# Altium schematic symbol library 15EDG.SchLib: 46 symbols (part 1 of 2)
Pins are listed as number, name and electrical type; pins without a type are passive.

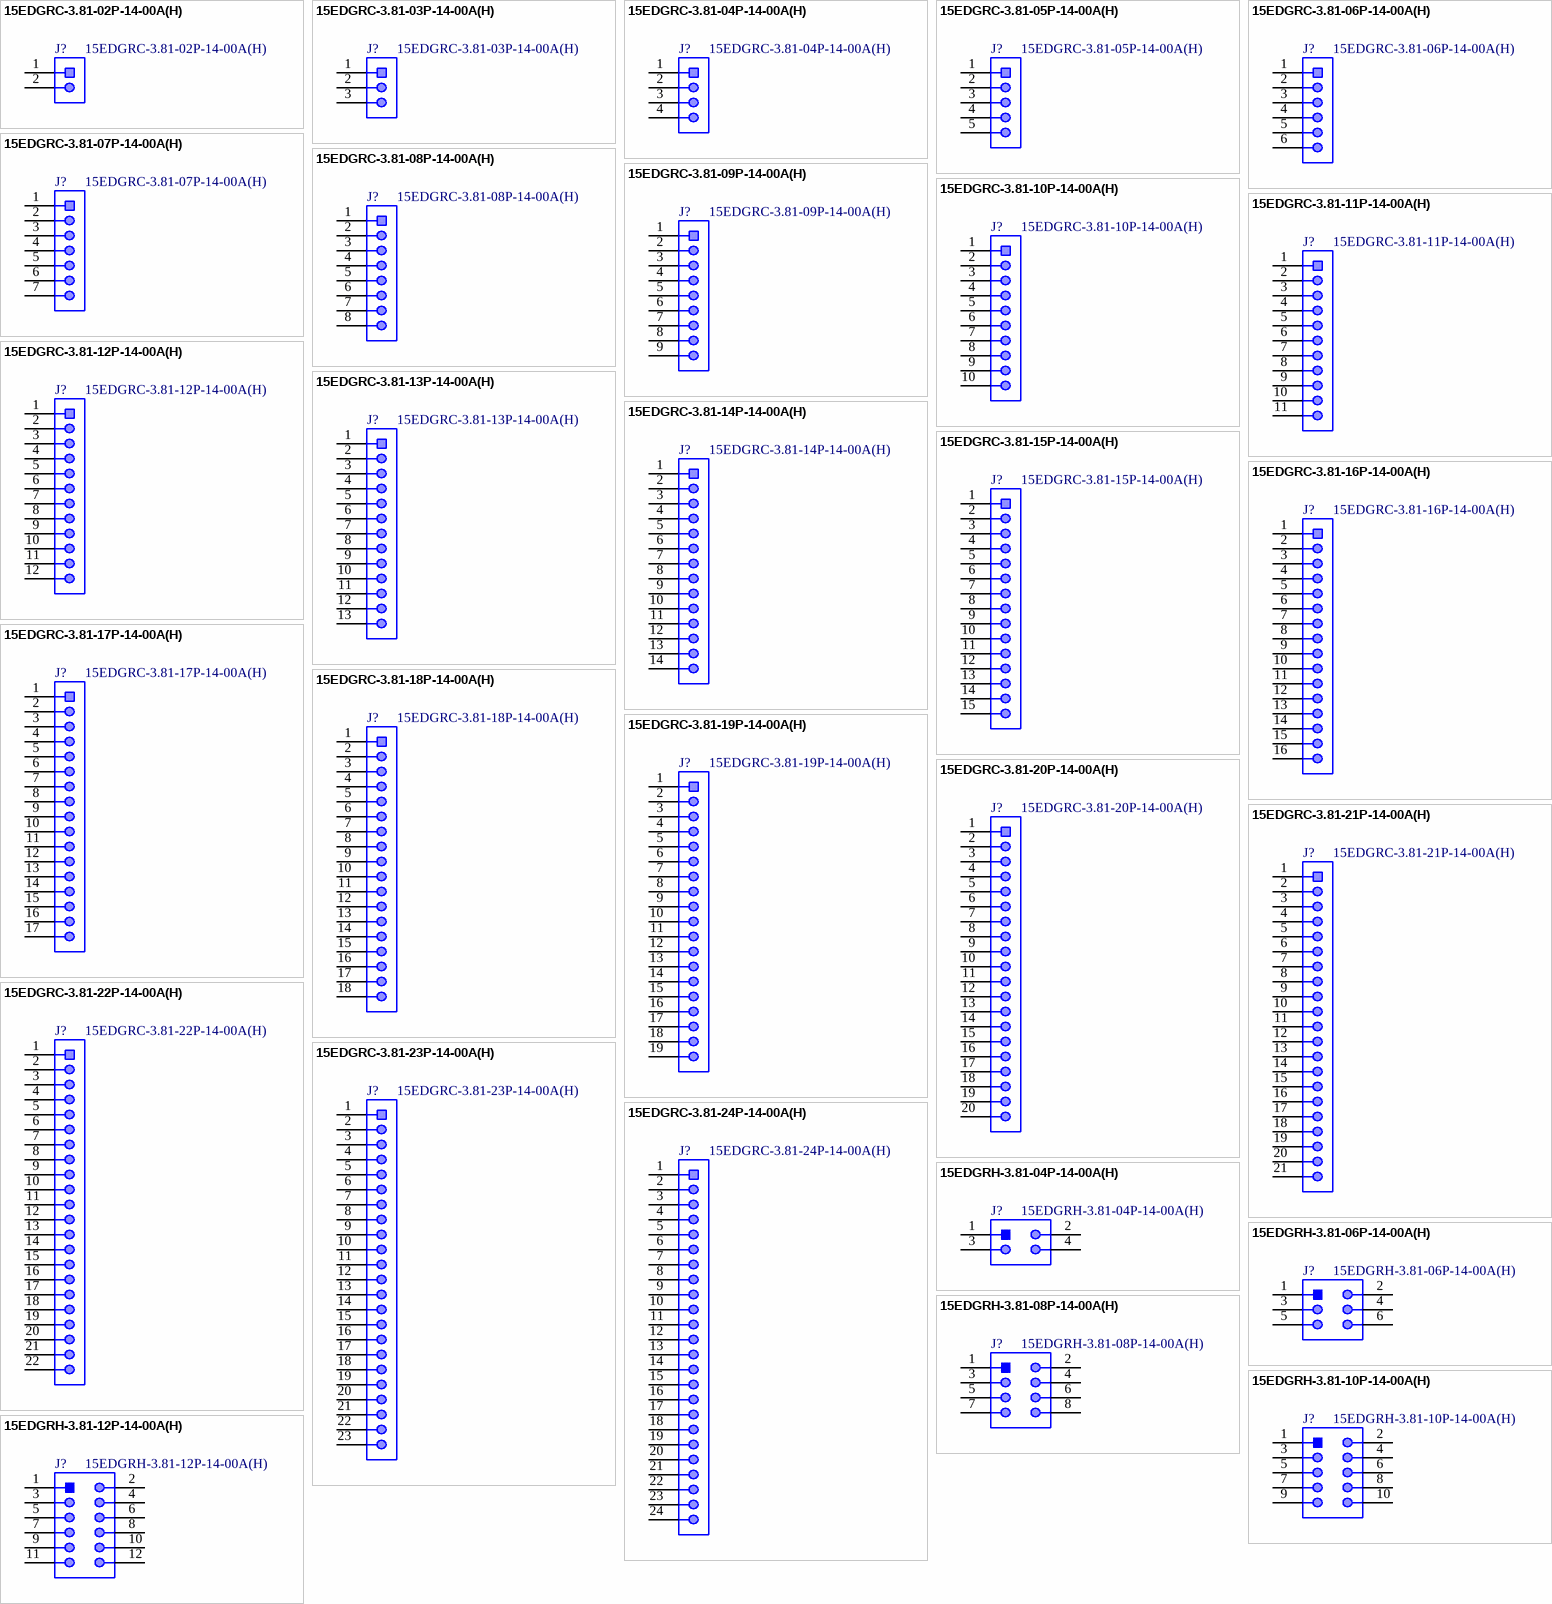
[diagram p0: symbols 15EDGRC-3.81-02P-14-00A(H) to 15EDGRH-3.81-12P-14-00A(H)]

## 15EDGRC-3.81-02P-14-00A(H)
designator J?
Pluggable Terminal Block, Horizontal, 1 x 2 Position, Pitch 3.81 mm, -40 to 105 degC, RoHS; Manufacturer: Degson Electronics; Poles: 2; Pitch: 3.81mm; Rated Current: 7A; Rated Voltage: 250V; No. of Rows: 1; Packing Unit: 200; Pin Arrangement: Single row in a straight line; Type of Installation: PCB welding; Pluggable or not: Yes; Process: Wave soldering/manual soldering; ComponentLink1Description: Manufacturer; ComponentLink1URL: http://www.degson.com/; ComponentLink2URL: https://www.degson.com.cn/index.php?a=downloadFile&id=833556&name=%27ZmlsZTQ=%27&lang=cn; ComponentLink2Description: Datasheet; Mounting Technology: Through Hole; Part Number: 15EDGRC-3.81-02P-14-00A(H); Operating Temperature: -40 to +105degC; Publisher: Bolgen Studio; Package Description: Terminal Block, Pitch 3.81 mm, 1 x 2 Position, Height 7.24 mm; Package Reference: 15EDGRC-3.81-02P-14-00A; Color: Green; Orientation: Horizontal; Datasheet Version: Rev. T1, 03/2020
footprint DGSN-15EDGRC-3.81-02P-14-00A_V (Terminal Block, 2-Pin, Body 8.41x9.2mm, Pitch 3.81mm)
pins: 1, 2

## 15EDGRC-3.81-03P-14-00A(H)
designator J?
Pluggable Terminal Block, Horizontal, 1 x 3 Position, Pitch 3.81 mm, -40 to 105 degC, RoHS; Manufacturer: Degson Electronics; Poles: 3; Pitch: 3.81mm; Rated Current: 7A; Rated Voltage: 250V; No. of Rows: 1; Packing Unit: 200; Pin Arrangement: Single row in a straight line; Type of Installation: PCB welding; Pluggable or not: Yes; Process: Wave soldering/manual soldering; ComponentLink1Description: Manufacturer; ComponentLink1URL: http://www.degson.com/; ComponentLink2URL: https://www.degson.com.cn/index.php?a=downloadFile&id=833556&name=%27ZmlsZTQ=%27&lang=cn; ComponentLink2Description: Datasheet; Mounting Technology: Through Hole; Part Number: 15EDGRC-3.81-03P-14-00A(H); Operating Temperature: -40 to +105degC; Publisher: Bolgen Studio; Package Description: Terminal Block, Pitch 3.81 mm, 1 x 3 Position, Height 7.24 mm; Package Reference: 15EDGRC-3.81-03P-14-00A; Color: Green; Orientation: Horizontal; Datasheet Version: Rev. T1, 03/2020
footprint DGSN-15EDGRC-3.81-03P-14-00A_V (Terminal Block, 3-Pin, Body 12.22x9.2mm, Pitch 3.81mm)
pins: 1, 2, 3

## 15EDGRC-3.81-04P-14-00A(H)
designator J?
Pluggable Terminal Block, Horizontal, 1 x 4 Position, Pitch 3.81 mm, -40 to 105 degC, RoHS; Manufacturer: Degson Electronics; Poles: 4; Pitch: 3.81mm; Rated Current: 7A; Rated Voltage: 250V; No. of Rows: 1; Packing Unit: 200; Pin Arrangement: Single row in a straight line; Type of Installation: PCB welding; Pluggable or not: Yes; Process: Wave soldering/manual soldering; ComponentLink1Description: Manufacturer; ComponentLink1URL: http://www.degson.com/; ComponentLink2URL: https://www.degson.com.cn/index.php?a=downloadFile&id=833556&name=%27ZmlsZTQ=%27&lang=cn; ComponentLink2Description: Datasheet; Mounting Technology: Through Hole; Part Number: 15EDGRC-3.81-04P-14-00A(H); Operating Temperature: -40 to +105degC; Publisher: Bolgen Studio; Package Description: Terminal Block, Pitch 3.81 mm, 1 x 4 Position, Height 7.24 mm; Package Reference: 15EDGRC-3.81-04P-14-00A; Color: Green; Orientation: Horizontal; Datasheet Version: Rev. T1, 03/2020
footprint DGSN-15EDGRC-3.81-04P-14-00A_V (Terminal Block, 4-Pin, Body 16.03x9.2mm, Pitch 3.81mm)
pins: 1, 2, 3, 4

## 15EDGRC-3.81-05P-14-00A(H)
designator J?
Pluggable Terminal Block, Horizontal, 1 x 5 Position, Pitch 3.81 mm, -40 to 105 degC, RoHS; Manufacturer: Degson Electronics; Poles: 5; Pitch: 3.81mm; Rated Current: 7A; Rated Voltage: 250V; No. of Rows: 1; Packing Unit: 200; Pin Arrangement: Single row in a straight line; Type of Installation: PCB welding; Pluggable or not: Yes; Process: Wave soldering/manual soldering; ComponentLink1Description: Manufacturer; ComponentLink1URL: http://www.degson.com/; ComponentLink2URL: https://www.degson.com.cn/index.php?a=downloadFile&id=833556&name=%27ZmlsZTQ=%27&lang=cn; ComponentLink2Description: Datasheet; Mounting Technology: Through Hole; Part Number: 15EDGRC-3.81-05P-14-00A(H); Operating Temperature: -40 to +105degC; Publisher: Bolgen Studio; Package Description: Terminal Block, Pitch 3.81 mm, 1 x 5 Position, Height 7.24 mm; Package Reference: 15EDGRC-3.81-05P-14-00A; Color: Green; Orientation: Horizontal; Datasheet Version: Rev. T1, 03/2020
footprint DGSN-15EDGRC-3.81-05P-14-00A_V (Terminal Block, 5-Pin, Body 19.84x9.2mm, Pitch 3.81mm)
pins: 1, 2, 3, 4, 5

## 15EDGRC-3.81-06P-14-00A(H)
designator J?
Pluggable Terminal Block, Horizontal, 1 x 6 Position, Pitch 3.81 mm, -40 to 105 degC, RoHS; Manufacturer: Degson Electronics; Poles: 6; Pitch: 3.81mm; Rated Current: 7A; Rated Voltage: 250V; No. of Rows: 1; Packing Unit: 200; Pin Arrangement: Single row in a straight line; Type of Installation: PCB welding; Pluggable or not: Yes; Process: Wave soldering/manual soldering; ComponentLink1Description: Manufacturer; ComponentLink1URL: http://www.degson.com/; ComponentLink2URL: https://www.degson.com.cn/index.php?a=downloadFile&id=833556&name=%27ZmlsZTQ=%27&lang=cn; ComponentLink2Description: Datasheet; Mounting Technology: Through Hole; Part Number: 15EDGRC-3.81-06P-14-00A(H); Operating Temperature: -40 to +105degC; Publisher: Bolgen Studio; Package Description: Terminal Block, Pitch 3.81 mm, 1 x 6 Position, Height 7.24 mm; Package Reference: 15EDGRC-3.81-06P-14-00A; Color: Green; Orientation: Horizontal; Datasheet Version: Rev. T1, 03/2020
footprint DGSN-15EDGRC-3.81-06P-14-00A_V (Terminal Block, 6-Pin, Body 23.65x9.2mm, Pitch 3.81mm)
pins: 1, 2, 3, 4, 5, 6

## 15EDGRC-3.81-07P-14-00A(H)
designator J?
Pluggable Terminal Block, Horizontal, 1 x 7 Position, Pitch 3.81 mm, -40 to 105 degC, RoHS; Manufacturer: Degson Electronics; Poles: 7; Pitch: 3.81mm; Rated Current: 7A; Rated Voltage: 250V; No. of Rows: 1; Packing Unit: 200; Pin Arrangement: Single row in a straight line; Type of Installation: PCB welding; Pluggable or not: Yes; Process: Wave soldering/manual soldering; ComponentLink1Description: Manufacturer; ComponentLink1URL: http://www.degson.com/; ComponentLink2URL: https://www.degson.com.cn/index.php?a=downloadFile&id=833556&name=%27ZmlsZTQ=%27&lang=cn; ComponentLink2Description: Datasheet; Mounting Technology: Through Hole; Part Number: 15EDGRC-3.81-07P-14-00A(H); Operating Temperature: -40 to +105degC; Publisher: Bolgen Studio; Package Description: Terminal Block, Pitch 3.81 mm, 1 x 7 Position, Height 7.24 mm; Package Reference: 15EDGRC-3.81-07P-14-00A; Color: Green; Orientation: Horizontal; Datasheet Version: Rev. T1, 03/2020
footprint DGSN-15EDGRC-3.81-07P-14-00A_V (Terminal Block, 7-Pin, Body 27.46x9.2mm, Pitch 3.81mm)
pins: 1, 2, 3, 4, 5, 6, 7

## 15EDGRC-3.81-08P-14-00A(H)
designator J?
Pluggable Terminal Block, Horizontal, 1 x 8 Position, Pitch 3.81 mm, -40 to 105 degC, RoHS; Manufacturer: Degson Electronics; Poles: 8; Pitch: 3.81mm; Rated Current: 7A; Rated Voltage: 250V; No. of Rows: 1; Packing Unit: 200; Pin Arrangement: Single row in a straight line; Type of Installation: PCB welding; Pluggable or not: Yes; Process: Wave soldering/manual soldering; ComponentLink1Description: Manufacturer; ComponentLink1URL: http://www.degson.com/; ComponentLink2URL: https://www.degson.com.cn/index.php?a=downloadFile&id=833556&name=%27ZmlsZTQ=%27&lang=cn; ComponentLink2Description: Datasheet; Mounting Technology: Through Hole; Part Number: 15EDGRC-3.81-08P-14-00A(H); Operating Temperature: -40 to +105degC; Publisher: Bolgen Studio; Package Description: Terminal Block, Pitch 3.81 mm, 1 x 8 Position, Height 7.24 mm; Package Reference: 15EDGRC-3.81-08P-14-00A; Color: Green; Orientation: Horizontal; Datasheet Version: Rev. T1, 03/2020
footprint DGSN-15EDGRC-3.81-08P-14-00A_V (Terminal Block, 8-Pin, Body 31.27x9.2mm, Pitch 3.81mm)
pins: 1, 2, 3, 4, 5, 6, 7, 8

## 15EDGRC-3.81-09P-14-00A(H)
designator J?
Pluggable Terminal Block, Horizontal, 1 x 9 Position, Pitch 3.81 mm, -40 to 105 degC, RoHS; Manufacturer: Degson Electronics; Poles: 9; Pitch: 3.81mm; Rated Current: 7A; Rated Voltage: 250V; No. of Rows: 1; Packing Unit: 200; Pin Arrangement: Single row in a straight line; Type of Installation: PCB welding; Pluggable or not: Yes; Process: Wave soldering/manual soldering; ComponentLink1Description: Manufacturer; ComponentLink1URL: http://www.degson.com/; ComponentLink2URL: https://www.degson.com.cn/index.php?a=downloadFile&id=833556&name=%27ZmlsZTQ=%27&lang=cn; ComponentLink2Description: Datasheet; Mounting Technology: Through Hole; Part Number: 15EDGRC-3.81-09P-14-00A(H); Operating Temperature: -40 to +105degC; Publisher: Bolgen Studio; Package Description: Terminal Block, Pitch 3.81 mm, 1 x 9 Position, Height 7.24 mm; Package Reference: 15EDGRC-3.81-09P-14-00A; Color: Green; Orientation: Horizontal; Datasheet Version: Rev. T1, 03/2020
footprint DGSN-15EDGRC-3.81-09P-14-00A_V (Terminal Block, 9-Pin, Body 35.08x9.2mm, Pitch 3.81mm)
pins: 1, 2, 3, 4, 5, 6, 7, 8, 9

## 15EDGRC-3.81-10P-14-00A(H)
designator J?
Pluggable Terminal Block, Horizontal, 1 x 10 Position, Pitch 3.81 mm, -40 to 105 degC, RoHS; Manufacturer: Degson Electronics; Poles: 10; Pitch: 3.81mm; Rated Current: 7A; Rated Voltage: 250V; No. of Rows: 1; Packing Unit: 200; Pin Arrangement: Single row in a straight line; Type of Installation: PCB welding; Pluggable or not: Yes; Process: Wave soldering/manual soldering; ComponentLink1Description: Manufacturer; ComponentLink1URL: http://www.degson.com/; ComponentLink2URL: https://www.degson.com.cn/index.php?a=downloadFile&id=833556&name=%27ZmlsZTQ=%27&lang=cn; ComponentLink2Description: Datasheet; Mounting Technology: Through Hole; Part Number: 15EDGRC-3.81-10P-14-00A(H); Operating Temperature: -40 to +105degC; Publisher: Bolgen Studio; Package Description: Terminal Block, Pitch 3.81 mm, 1 x 10 Position, Height 7.24 mm; Package Reference: 15EDGRC-3.81-10P-14-00A; Color: Green; Orientation: Horizontal; Datasheet Version: Rev. T1, 03/2020
footprint DGSN-15EDGRC-3.81-10P-14-00A_V (Terminal Block, 10-Pin, Body 38.89x9.2mm, Pitch 3.81mm)
pins: 1, 2, 3, 4, 5, 6, 7, 8, 9, 10

## 15EDGRC-3.81-11P-14-00A(H)
designator J?
Pluggable Terminal Block, Horizontal, 1 x 11 Position, Pitch 3.81 mm, -40 to 105 degC, RoHS; Manufacturer: Degson Electronics; Poles: 11; Pitch: 3.81mm; Rated Current: 7A; Rated Voltage: 250V; No. of Rows: 1; Packing Unit: 200; Pin Arrangement: Single row in a straight line; Type of Installation: PCB welding; Pluggable or not: Yes; Process: Wave soldering/manual soldering; ComponentLink1Description: Manufacturer; ComponentLink1URL: http://www.degson.com/; ComponentLink2URL: https://www.degson.com.cn/index.php?a=downloadFile&id=833556&name=%27ZmlsZTQ=%27&lang=cn; ComponentLink2Description: Datasheet; Mounting Technology: Through Hole; Part Number: 15EDGRC-3.81-11P-14-00A(H); Operating Temperature: -40 to +105degC; Publisher: Bolgen Studio; Package Description: Terminal Block, Pitch 3.81 mm, 1 x 11 Position, Height 7.24 mm; Package Reference: 15EDGRC-3.81-11P-14-00A; Color: Green; Orientation: Horizontal; Datasheet Version: Rev. T1, 03/2020
footprint DGSN-15EDGRC-3.81-11P-14-00A_V (Terminal Block, 11-Pin, Body 42.70x9.2mm, Pitch 3.81mm)
pins: 1, 2, 3, 4, 5, 6, 7, 8, 9, 10, 11

## 15EDGRC-3.81-12P-14-00A(H)
designator J?
Pluggable Terminal Block, Horizontal, 1 x 12 Position, Pitch 3.81 mm, -40 to 105 degC, RoHS; Manufacturer: Degson Electronics; Poles: 12; Pitch: 3.81mm; Rated Current: 7A; Rated Voltage: 250V; No. of Rows: 1; Packing Unit: 200; Pin Arrangement: Single row in a straight line; Type of Installation: PCB welding; Pluggable or not: Yes; Process: Wave soldering/manual soldering; ComponentLink1Description: Manufacturer; ComponentLink1URL: http://www.degson.com/; ComponentLink2URL: https://www.degson.com.cn/index.php?a=downloadFile&id=833556&name=%27ZmlsZTQ=%27&lang=cn; ComponentLink2Description: Datasheet; Mounting Technology: Through Hole; Part Number: 15EDGRC-3.81-12P-14-00A(H); Operating Temperature: -40 to +105degC; Publisher: Bolgen Studio; Package Description: Terminal Block, Pitch 3.81 mm, 1 x 12 Position, Height 7.24 mm; Package Reference: 15EDGRC-3.81-12P-14-00A; Color: Green; Orientation: Horizontal; Datasheet Version: Rev. T1, 03/2020
footprint DGSN-15EDGRC-3.81-12P-14-00A_V (Terminal Block, 12-Pin, Body 46.51x9.2mm, Pitch 3.81mm)
pins: 1, 2, 3, 4, 5, 6, 7, 8, 9, 10, 11, 12

## 15EDGRC-3.81-13P-14-00A(H)
designator J?
Pluggable Terminal Block, Horizontal, 1 x 13 Position, Pitch 3.81 mm, -40 to 105 degC, RoHS; Manufacturer: Degson Electronics; Poles: 13; Pitch: 3.81mm; Rated Current: 7A; Rated Voltage: 250V; No. of Rows: 1; Packing Unit: 200; Pin Arrangement: Single row in a straight line; Type of Installation: PCB welding; Pluggable or not: Yes; Process: Wave soldering/manual soldering; ComponentLink1Description: Manufacturer; ComponentLink1URL: http://www.degson.com/; ComponentLink2URL: https://www.degson.com.cn/index.php?a=downloadFile&id=833556&name=%27ZmlsZTQ=%27&lang=cn; ComponentLink2Description: Datasheet; Mounting Technology: Through Hole; Part Number: 15EDGRC-3.81-13P-14-00A(H); Operating Temperature: -40 to +105degC; Publisher: Bolgen Studio; Package Description: Terminal Block, Pitch 3.81 mm, 1 x 13 Position, Height 7.24 mm; Package Reference: 15EDGRC-3.81-13P-14-00A; Color: Green; Orientation: Horizontal; Datasheet Version: Rev. T1, 03/2020
footprint DGSN-15EDGRC-3.81-13P-14-00A_V (Terminal Block, 13-Pin, Body 50.32x9.2mm, Pitch 3.81mm)
pins: 1, 2, 3, 4, 5, 6, 7, 8, 9, 10, 11, 12, 13

## 15EDGRC-3.81-14P-14-00A(H)
designator J?
Pluggable Terminal Block, Horizontal, 1 x 14 Position, Pitch 3.81 mm, -40 to 105 degC, RoHS; Manufacturer: Degson Electronics; Poles: 14; Pitch: 3.81mm; Rated Current: 7A; Rated Voltage: 250V; No. of Rows: 1; Packing Unit: 200; Pin Arrangement: Single row in a straight line; Type of Installation: PCB welding; Pluggable or not: Yes; Process: Wave soldering/manual soldering; ComponentLink1Description: Manufacturer; ComponentLink1URL: http://www.degson.com/; ComponentLink2URL: https://www.degson.com.cn/index.php?a=downloadFile&id=833556&name=%27ZmlsZTQ=%27&lang=cn; ComponentLink2Description: Datasheet; Mounting Technology: Through Hole; Part Number: 15EDGRC-3.81-14P-14-00A(H); Operating Temperature: -40 to +105degC; Publisher: Bolgen Studio; Package Description: Terminal Block, Pitch 3.81 mm, 1 x 14 Position, Height 7.24 mm; Package Reference: 15EDGRC-3.81-14P-14-00A; Color: Green; Orientation: Horizontal; Datasheet Version: Rev. T1, 03/2020
footprint DGSN-15EDGRC-3.81-14P-14-00A_V (Terminal Block, 14-Pin, Body 54.13x9.2mm, Pitch 3.81mm)
pins: 1, 2, 3, 4, 5, 6, 7, 8, 9, 10, 11, 12, 13, 14

## 15EDGRC-3.81-15P-14-00A(H)
designator J?
Pluggable Terminal Block, Horizontal, 1 x 15 Position, Pitch 3.81 mm, -40 to 105 degC, RoHS; Manufacturer: Degson Electronics; Poles: 15; Pitch: 3.81mm; Rated Current: 7A; Rated Voltage: 250V; No. of Rows: 1; Packing Unit: 200; Pin Arrangement: Single row in a straight line; Type of Installation: PCB welding; Pluggable or not: Yes; Process: Wave soldering/manual soldering; ComponentLink1Description: Manufacturer; ComponentLink1URL: http://www.degson.com/; ComponentLink2URL: https://www.degson.com.cn/index.php?a=downloadFile&id=833556&name=%27ZmlsZTQ=%27&lang=cn; ComponentLink2Description: Datasheet; Mounting Technology: Through Hole; Part Number: 15EDGRC-3.81-15P-14-00A(H); Operating Temperature: -40 to +105degC; Publisher: Bolgen Studio; Package Description: Terminal Block, Pitch 3.81 mm, 1 x 15 Position, Height 7.24 mm; Package Reference: 15EDGRC-3.81-15P-14-00A; Color: Green; Orientation: Horizontal; Datasheet Version: Rev. T1, 03/2020
footprint DGSN-15EDGRC-3.81-15P-14-00A_V (Terminal Block, 15-Pin, Body 57.94x9.2mm, Pitch 3.81mm)
pins: 1, 2, 3, 4, 5, 6, 7, 8, 9, 10, 11, 12, 13, 14, 15

## 15EDGRC-3.81-16P-14-00A(H)
designator J?
Pluggable Terminal Block, Horizontal, 1 x 16 Position, Pitch 3.81 mm, -40 to 105 degC, RoHS; Manufacturer: Degson Electronics; Poles: 16; Pitch: 3.81mm; Rated Current: 7A; Rated Voltage: 250V; No. of Rows: 1; Packing Unit: 200; Pin Arrangement: Single row in a straight line; Type of Installation: PCB welding; Pluggable or not: Yes; Process: Wave soldering/manual soldering; ComponentLink1Description: Manufacturer; ComponentLink1URL: http://www.degson.com/; ComponentLink2URL: https://www.degson.com.cn/index.php?a=downloadFile&id=833556&name=%27ZmlsZTQ=%27&lang=cn; ComponentLink2Description: Datasheet; Mounting Technology: Through Hole; Part Number: 15EDGRC-3.81-16P-14-00A(H); Operating Temperature: -40 to +105degC; Publisher: Bolgen Studio; Package Description: Terminal Block, Pitch 3.81 mm, 1 x 16 Position, Height 7.24 mm; Package Reference: 15EDGRC-3.81-16P-14-00A; Color: Green; Orientation: Horizontal; Datasheet Version: Rev. T1, 03/2020
footprint DGSN-15EDGRC-3.81-16P-14-00A_V (Terminal Block, 16-Pin, Body 61.75x9.2mm, Pitch 3.81mm)
pins: 1, 2, 3, 4, 5, 6, 7, 8, 9, 10, 11, 12, 13, 14, 15, 16

## 15EDGRC-3.81-17P-14-00A(H)
designator J?
Pluggable Terminal Block, Horizontal, 1 x 17 Position, Pitch 3.81 mm, -40 to 105 degC, RoHS; Manufacturer: Degson Electronics; Poles: 17; Pitch: 3.81mm; Rated Current: 7A; Rated Voltage: 250V; No. of Rows: 1; Packing Unit: 200; Pin Arrangement: Single row in a straight line; Type of Installation: PCB welding; Pluggable or not: Yes; Process: Wave soldering/manual soldering; ComponentLink1Description: Manufacturer; ComponentLink1URL: http://www.degson.com/; ComponentLink2URL: https://www.degson.com.cn/index.php?a=downloadFile&id=833556&name=%27ZmlsZTQ=%27&lang=cn; ComponentLink2Description: Datasheet; Mounting Technology: Through Hole; Part Number: 15EDGRC-3.81-17P-14-00A(H); Operating Temperature: -40 to +105degC; Publisher: Bolgen Studio; Package Description: Terminal Block, Pitch 3.81 mm, 1 x 17 Position, Height 7.24 mm; Package Reference: 15EDGRC-3.81-17P-14-00A; Color: Green; Orientation: Horizontal; Datasheet Version: Rev. T1, 03/2020
footprint DGSN-15EDGRC-3.81-17P-14-00A_V (Terminal Block, 17-Pin, Body 65.56x9.2mm, Pitch 3.81mm)
pins: 1, 2, 3, 4, 5, 6, 7, 8, 9, 10, 11, 12, 13, 14, 15, 16, 17

## 15EDGRC-3.81-18P-14-00A(H)
designator J?
Pluggable Terminal Block, Horizontal, 1 x 18 Position, Pitch 3.81 mm, -40 to 105 degC, RoHS; Manufacturer: Degson Electronics; Poles: 18; Pitch: 3.81mm; Rated Current: 7A; Rated Voltage: 250V; No. of Rows: 1; Packing Unit: 200; Pin Arrangement: Single row in a straight line; Type of Installation: PCB welding; Pluggable or not: Yes; Process: Wave soldering/manual soldering; ComponentLink1Description: Manufacturer; ComponentLink1URL: http://www.degson.com/; ComponentLink2URL: https://www.degson.com.cn/index.php?a=downloadFile&id=833556&name=%27ZmlsZTQ=%27&lang=cn; ComponentLink2Description: Datasheet; Mounting Technology: Through Hole; Part Number: 15EDGRC-3.81-18P-14-00A(H); Operating Temperature: -40 to +105degC; Publisher: Bolgen Studio; Package Description: Terminal Block, Pitch 3.81 mm, 1 x 18 Position, Height 7.24 mm; Package Reference: 15EDGRC-3.81-18P-14-00A; Color: Green; Orientation: Horizontal; Datasheet Version: Rev. T1, 03/2020
footprint DGSN-15EDGRC-3.81-18P-14-00A_V (Terminal Block, 18-Pin, Body 69.37x9.2mm, Pitch 3.81mm)
pins: 1, 2, 3, 4, 5, 6, 7, 8, 9, 10, 11, 12, 13, 14, 15, 16, 17, 18

## 15EDGRC-3.81-19P-14-00A(H)
designator J?
Pluggable Terminal Block, Horizontal, 1 x 19 Position, Pitch 3.81 mm, -40 to 105 degC, RoHS; Manufacturer: Degson Electronics; Poles: 19; Pitch: 3.81mm; Rated Current: 7A; Rated Voltage: 250V; No. of Rows: 1; Packing Unit: 200; Pin Arrangement: Single row in a straight line; Type of Installation: PCB welding; Pluggable or not: Yes; Process: Wave soldering/manual soldering; ComponentLink1Description: Manufacturer; ComponentLink1URL: http://www.degson.com/; ComponentLink2URL: https://www.degson.com.cn/index.php?a=downloadFile&id=833556&name=%27ZmlsZTQ=%27&lang=cn; ComponentLink2Description: Datasheet; Mounting Technology: Through Hole; Part Number: 15EDGRC-3.81-19P-14-00A(H); Operating Temperature: -40 to +105degC; Publisher: Bolgen Studio; Package Description: Terminal Block, Pitch 3.81 mm, 1 x 19 Position, Height 7.24 mm; Package Reference: 15EDGRC-3.81-19P-14-00A; Color: Green; Orientation: Horizontal; Datasheet Version: Rev. T1, 03/2020
footprint DGSN-15EDGRC-3.81-19P-14-00A_V (Terminal Block, 19-Pin, Body 73.18x9.2mm, Pitch 3.81mm)
pins: 1, 2, 3, 4, 5, 6, 7, 8, 9, 10, 11, 12, 13, 14, 15, 16, 17, 18, 19

## 15EDGRC-3.81-20P-14-00A(H)
designator J?
Pluggable Terminal Block, Horizontal, 1 x 20 Position, Pitch 3.81 mm, -40 to 105 degC, RoHS; Manufacturer: Degson Electronics; Poles: 20; Pitch: 3.81mm; Rated Current: 7A; Rated Voltage: 250V; No. of Rows: 1; Packing Unit: 200; Pin Arrangement: Single row in a straight line; Type of Installation: PCB welding; Pluggable or not: Yes; Process: Wave soldering/manual soldering; ComponentLink1Description: Manufacturer; ComponentLink1URL: http://www.degson.com/; ComponentLink2URL: https://www.degson.com.cn/index.php?a=downloadFile&id=833556&name=%27ZmlsZTQ=%27&lang=cn; ComponentLink2Description: Datasheet; Mounting Technology: Through Hole; Part Number: 15EDGRC-3.81-20P-14-00A(H); Operating Temperature: -40 to +105degC; Publisher: Bolgen Studio; Package Description: Terminal Block, Pitch 3.81 mm, 1 x 20 Position, Height 7.24 mm; Package Reference: 15EDGRC-3.81-20P-14-00A; Color: Green; Orientation: Horizontal; Datasheet Version: Rev. T1, 03/2020
footprint DGSN-15EDGRC-3.81-20P-14-00A_V (Terminal Block, 20-Pin, Body 76.99x9.2mm, Pitch 3.81mm)
pins: 1, 2, 3, 4, 5, 6, 7, 8, 9, 10, 11, 12, 13, 14, 15, 16, 17, 18, 19, 20

## 15EDGRC-3.81-21P-14-00A(H)
designator J?
Pluggable Terminal Block, Horizontal, 1 x 21 Position, Pitch 3.81 mm, -40 to 105 degC, RoHS; Manufacturer: Degson Electronics; Poles: 21; Pitch: 3.81mm; Rated Current: 7A; Rated Voltage: 250V; No. of Rows: 1; Packing Unit: 200; Pin Arrangement: Single row in a straight line; Type of Installation: PCB welding; Pluggable or not: Yes; Process: Wave soldering/manual soldering; ComponentLink1Description: Manufacturer; ComponentLink1URL: http://www.degson.com/; ComponentLink2URL: https://www.degson.com.cn/index.php?a=downloadFile&id=833556&name=%27ZmlsZTQ=%27&lang=cn; ComponentLink2Description: Datasheet; Mounting Technology: Through Hole; Part Number: 15EDGRC-3.81-21P-14-00A(H); Operating Temperature: -40 to +105degC; Publisher: Bolgen Studio; Package Description: Terminal Block, Pitch 3.81 mm, 1 x 21 Position, Height 7.24 mm; Package Reference: 15EDGRC-3.81-21P-14-00A; Color: Green; Orientation: Horizontal; Datasheet Version: Rev. T1, 03/2020
footprint DGSN-15EDGRC-3.81-21P-14-00A_V (Terminal Block, 21-Pin, Body 80.80x9.2mm, Pitch 3.81mm)
pins: 1, 2, 3, 4, 5, 6, 7, 8, 9, 10, 11, 12, 13, 14, 15, 16, 17, 18, 19, 20, 21

## 15EDGRC-3.81-22P-14-00A(H)
designator J?
Pluggable Terminal Block, Horizontal, 1 x 22 Position, Pitch 3.81 mm, -40 to 105 degC, RoHS; Manufacturer: Degson Electronics; Poles: 22; Pitch: 3.81mm; Rated Current: 7A; Rated Voltage: 250V; No. of Rows: 1; Packing Unit: 200; Pin Arrangement: Single row in a straight line; Type of Installation: PCB welding; Pluggable or not: Yes; Process: Wave soldering/manual soldering; ComponentLink1Description: Manufacturer; ComponentLink1URL: http://www.degson.com/; ComponentLink2URL: https://www.degson.com.cn/index.php?a=downloadFile&id=833556&name=%27ZmlsZTQ=%27&lang=cn; ComponentLink2Description: Datasheet; Mounting Technology: Through Hole; Part Number: 15EDGRC-3.81-22P-14-00A(H); Operating Temperature: -40 to +105degC; Publisher: Bolgen Studio; Package Description: Terminal Block, Pitch 3.81 mm, 1 x 22 Position, Height 7.24 mm; Package Reference: 15EDGRC-3.81-22P-14-00A; Color: Green; Orientation: Horizontal; Datasheet Version: Rev. T1, 03/2020
footprint DGSN-15EDGRC-3.81-22P-14-00A_V (Terminal Block, 22-Pin, Body 84.61x9.2mm, Pitch 3.81mm)
pins: 1, 2, 3, 4, 5, 6, 7, 8, 9, 10, 11, 12, 13, 14, 15, 16, 17, 18, 19, 20, 21, 22

## 15EDGRC-3.81-23P-14-00A(H)
designator J?
Pluggable Terminal Block, Horizontal, 1 x 23 Position, Pitch 3.81 mm, -40 to 105 degC, RoHS; Manufacturer: Degson Electronics; Poles: 23; Pitch: 3.81mm; Rated Current: 7A; Rated Voltage: 250V; No. of Rows: 1; Packing Unit: 200; Pin Arrangement: Single row in a straight line; Type of Installation: PCB welding; Pluggable or not: Yes; Process: Wave soldering/manual soldering; ComponentLink1Description: Manufacturer; ComponentLink1URL: http://www.degson.com/; ComponentLink2URL: https://www.degson.com.cn/index.php?a=downloadFile&id=833556&name=%27ZmlsZTQ=%27&lang=cn; ComponentLink2Description: Datasheet; Mounting Technology: Through Hole; Part Number: 15EDGRC-3.81-23P-14-00A(H); Operating Temperature: -40 to +105degC; Publisher: Bolgen Studio; Package Description: Terminal Block, Pitch 3.81 mm, 1 x 23 Position, Height 7.24 mm; Package Reference: 15EDGRC-3.81-23P-14-00A; Color: Green; Orientation: Horizontal; Datasheet Version: Rev. T1, 03/2020
footprint DGSN-15EDGRC-3.81-23P-14-00A_V (Terminal Block, 23-Pin, Body 88.42x9.2mm, Pitch 3.81mm)
pins: 1, 2, 3, 4, 5, 6, 7, 8, 9, 10, 11, 12, 13, 14, 15, 16, 17, 18, 19, 20, 21, 22, 23

## 15EDGRC-3.81-24P-14-00A(H)
designator J?
Pluggable Terminal Block, Horizontal, 1 x 24 Position, Pitch 3.81 mm, -40 to 105 degC, RoHS; Manufacturer: Degson Electronics; Poles: 24; Pitch: 3.81mm; Rated Current: 7A; Rated Voltage: 250V; No. of Rows: 1; Packing Unit: 200; Pin Arrangement: Single row in a straight line; Type of Installation: PCB welding; Pluggable or not: Yes; Process: Wave soldering/manual soldering; ComponentLink1Description: Manufacturer; ComponentLink1URL: http://www.degson.com/; ComponentLink2URL: https://www.degson.com.cn/index.php?a=downloadFile&id=833556&name=%27ZmlsZTQ=%27&lang=cn; ComponentLink2Description: Datasheet; Mounting Technology: Through Hole; Part Number: 15EDGRC-3.81-24P-14-00A(H); Operating Temperature: -40 to +105degC; Publisher: Bolgen Studio; Package Description: Terminal Block, Pitch 3.81 mm, 1 x 24 Position, Height 7.24 mm; Package Reference: 15EDGRC-3.81-24P-14-00A; Color: Green; Orientation: Horizontal; Datasheet Version: Rev. T1, 03/2020
footprint DGSN-15EDGRC-3.81-24P-14-00A_V (Terminal Block, 24-Pin, Body 92.23x9.2mm, Pitch 3.81mm)
pins: 1, 2, 3, 4, 5, 6, 7, 8, 9, 10, 11, 12, 13, 14, 15, 16, 17, 18, 19, 20, 21, 22, 23, 24

## 15EDGRH-3.81-04P-14-00A(H)
designator J?
Pluggable Terminal Block, Double Level Horizontal, 2 x 2 Position, Pitch 3.81 mm, -40 to 105 degC, RoHS; Manufacturer: Degson Electronics; Poles: 4; Pitch: 3.81mm; Rated Current: 7A; Rated Voltage: 250V; No. of Rows: 2; Packing Unit: 100; Pin Arrangement: Double-row in a straight line; Type of Installation: PCB welding; ComponentLink1Description: Manufacturer; ComponentLink1URL: http://www.degson.com/; ComponentLink2URL: https://www.degson.com.cn/index.php?a=downloadFile&id=3864058&name=%27ZmlsZTQ=%27&lang=cn; ComponentLink2Description: Datasheet; Mounting Technology: Through Hole; Part Number: 15EDGRH-3.81-04P-14-00A(H); Operating Temperature: -40 to +105degC; Publisher: Bolgen Studio; Package Description: Terminal Block, Pitch 3.81 mm, 2 x 2 Position, Height 22.7 mm; Package Reference: 15EDGRH-3.81-04P-14-00A; Color: Green; Orientation: Horizontal; Datasheet Version: Rev. T2, 06/2020
footprint DGSN-15EDGRH-3.81-04P-14-00A_V (Terminal Block, 04-Pin, Body 8.86x21.80mm, Pitch 3.81mm)
pins: 1, 2, 3, 4

## 15EDGRH-3.81-06P-14-00A(H)
designator J?
Pluggable Terminal Block, Double Level Horizontal, 2 x 3 Position, Pitch 3.81 mm, -40 to 105 degC, RoHS; Manufacturer: Degson Electronics; Poles: 6; Pitch: 3.81mm; Rated Current: 7A; Rated Voltage: 250V; No. of Rows: 2; Packing Unit: 100; Pin Arrangement: Double-row in a straight line; Type of Installation: PCB welding; ComponentLink1Description: Manufacturer; ComponentLink1URL: http://www.degson.com/; ComponentLink2URL: https://www.degson.com.cn/index.php?a=downloadFile&id=3864058&name=%27ZmlsZTQ=%27&lang=cn; ComponentLink2Description: Datasheet; Mounting Technology: Through Hole; Part Number: 15EDGRH-3.81-06P-14-00A(H); Operating Temperature: -40 to +105degC; Publisher: Bolgen Studio; Package Description: Terminal Block, Pitch 3.81 mm, 2 x 3 Position, Height 22.7 mm; Package Reference: 15EDGRH-3.81-06P-14-00A; Color: Green; Orientation: Horizontal; Datasheet Version: Rev. T2, 06/2020
footprint DGSN-15EDGRH-3.81-06P-14-00A_V (Terminal Block, 06-Pin, Body 12.67x21.80mm, Pitch 3.81mm)
pins: 1, 2, 3, 4, 5, 6

## 15EDGRH-3.81-08P-14-00A(H)
designator J?
Pluggable Terminal Block, Double Level Horizontal, 2 x 4 Position, Pitch 3.81 mm, -40 to 105 degC, RoHS; Manufacturer: Degson Electronics; Poles: 8; Pitch: 3.81mm; Rated Current: 7A; Rated Voltage: 250V; No. of Rows: 2; Packing Unit: 100; Pin Arrangement: Double-row in a straight line; Type of Installation: PCB welding; ComponentLink1Description: Manufacturer; ComponentLink1URL: http://www.degson.com/; ComponentLink2URL: https://www.degson.com.cn/index.php?a=downloadFile&id=3864058&name=%27ZmlsZTQ=%27&lang=cn; ComponentLink2Description: Datasheet; Mounting Technology: Through Hole; Part Number: 15EDGRH-3.81-08P-14-00A(H); Operating Temperature: -40 to +105degC; Publisher: Bolgen Studio; Package Description: Terminal Block, Pitch 3.81 mm, 2 x 4 Position, Height 22.7 mm; Package Reference: 15EDGRH-3.81-08P-14-00A; Color: Green; Orientation: Horizontal; Datasheet Version: Rev. T2, 06/2020
footprint DGSN-15EDGRH-3.81-08P-14-00A_V (Terminal Block, 08-Pin, Body 16.48x21.80mm, Pitch 3.81mm)
pins: 1, 2, 3, 4, 5, 6, 7, 8

## 15EDGRH-3.81-10P-14-00A(H)
designator J?
Pluggable Terminal Block, Double Level Horizontal, 2 x 5 Position, Pitch 3.81 mm, -40 to 105 degC, RoHS; Manufacturer: Degson Electronics; Poles: 10; Pitch: 3.81mm; Rated Current: 7A; Rated Voltage: 250V; No. of Rows: 2; Packing Unit: 100; Pin Arrangement: Double-row in a straight line; Type of Installation: PCB welding; ComponentLink1Description: Manufacturer; ComponentLink1URL: http://www.degson.com/; ComponentLink2URL: https://www.degson.com.cn/index.php?a=downloadFile&id=3864058&name=%27ZmlsZTQ=%27&lang=cn; ComponentLink2Description: Datasheet; Mounting Technology: Through Hole; Part Number: 15EDGRH-3.81-10P-14-00A(H); Operating Temperature: -40 to +105degC; Publisher: Bolgen Studio; Package Description: Terminal Block, Pitch 3.81 mm, 2 x 5 Position, Height 22.7 mm; Package Reference: 15EDGRH-3.81-10P-14-00A; Color: Green; Orientation: Horizontal; Datasheet Version: Rev. T2, 06/2020
footprint DGSN-15EDGRH-3.81-10P-14-00A_V (Terminal Block, 10-Pin, Body 20.29x21.80mm, Pitch 3.81mm)
pins: 1, 2, 3, 4, 5, 6, 7, 8, 9, 10

## 15EDGRH-3.81-12P-14-00A(H)
designator J?
Pluggable Terminal Block, Double Level Horizontal, 2 x 6 Position, Pitch 3.81 mm, -40 to 105 degC, RoHS; Manufacturer: Degson Electronics; Poles: 12; Pitch: 3.81mm; Rated Current: 7A; Rated Voltage: 250V; No. of Rows: 2; Packing Unit: 100; Pin Arrangement: Double-row in a straight line; Type of Installation: PCB welding; ComponentLink1Description: Manufacturer; ComponentLink1URL: http://www.degson.com/; ComponentLink2URL: https://www.degson.com.cn/index.php?a=downloadFile&id=3864058&name=%27ZmlsZTQ=%27&lang=cn; ComponentLink2Description: Datasheet; Mounting Technology: Through Hole; Part Number: 15EDGRH-3.81-12P-14-00A(H); Operating Temperature: -40 to +105degC; Publisher: Bolgen Studio; Package Description: Terminal Block, Pitch 3.81 mm, 2 x 6 Position, Height 22.7 mm; Package Reference: 15EDGRH-3.81-12P-14-00A; Color: Green; Orientation: Horizontal; Datasheet Version: Rev. T2, 06/2020
footprint DGSN-15EDGRH-3.81-12P-14-00A_V (Terminal Block, 12-Pin, Body 24.10x21.80mm, Pitch 3.81mm)
pins: 1, 2, 3, 4, 5, 6, 7, 8, 9, 10, 11, 12

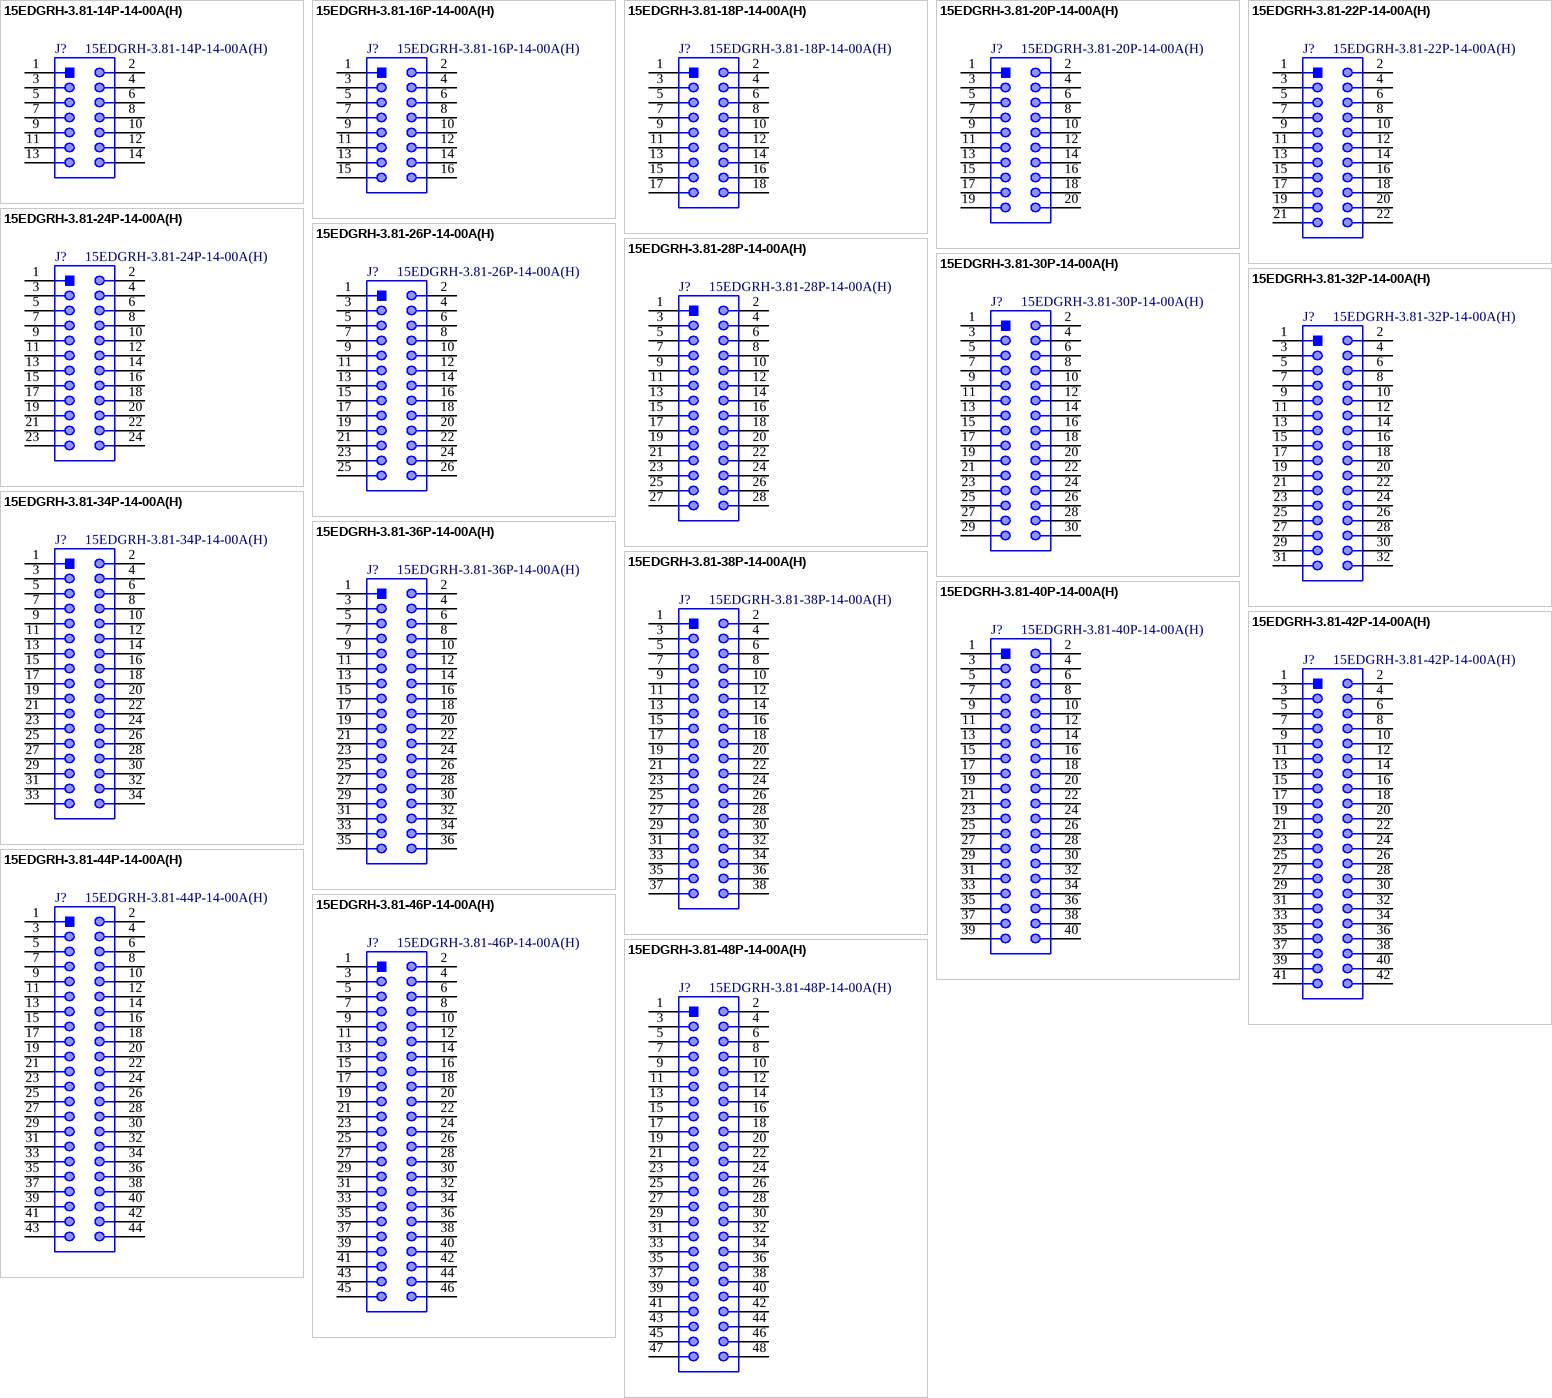
[diagram p1: symbols 15EDGRH-3.81-14P-14-00A(H) to 15EDGRH-3.81-48P-14-00A(H)]

## 15EDGRH-3.81-14P-14-00A(H)
designator J?
Pluggable Terminal Block, Double Level Horizontal, 2 x 7 Position, Pitch 3.81 mm, -40 to 105 degC, RoHS; Manufacturer: Degson Electronics; Poles: 14; Pitch: 3.81mm; Rated Current: 7A; Rated Voltage: 250V; No. of Rows: 2; Packing Unit: 100; Pin Arrangement: Double-row in a straight line; Type of Installation: PCB welding; ComponentLink1Description: Manufacturer; ComponentLink1URL: http://www.degson.com/; ComponentLink2URL: https://www.degson.com.cn/index.php?a=downloadFile&id=3864058&name=%27ZmlsZTQ=%27&lang=cn; ComponentLink2Description: Datasheet; Mounting Technology: Through Hole; Part Number: 15EDGRH-3.81-14P-14-00A(H); Operating Temperature: -40 to +105degC; Publisher: Bolgen Studio; Package Description: Terminal Block, Pitch 3.81 mm, 2 x 7 Position, Height 22.7 mm; Package Reference: 15EDGRH-3.81-14P-14-00A; Color: Green; Orientation: Horizontal; Datasheet Version: Rev. T2, 06/2020
footprint DGSN-15EDGRH-3.81-14P-14-00A_V (Terminal Block, 14-Pin, Body 27.91x21.80mm, Pitch 3.81mm)
pins: 1, 2, 3, 4, 5, 6, 7, 8, 9, 10, 11, 12, 13, 14

## 15EDGRH-3.81-16P-14-00A(H)
designator J?
Pluggable Terminal Block, Double Level Horizontal, 2 x 8 Position, Pitch 3.81 mm, -40 to 105 degC, RoHS; Manufacturer: Degson Electronics; Poles: 16; Pitch: 3.81mm; Rated Current: 7A; Rated Voltage: 250V; No. of Rows: 2; Packing Unit: 100; Pin Arrangement: Double-row in a straight line; Type of Installation: PCB welding; ComponentLink1Description: Manufacturer; ComponentLink1URL: http://www.degson.com/; ComponentLink2URL: https://www.degson.com.cn/index.php?a=downloadFile&id=3864058&name=%27ZmlsZTQ=%27&lang=cn; ComponentLink2Description: Datasheet; Mounting Technology: Through Hole; Part Number: 15EDGRH-3.81-16P-14-00A(H); Operating Temperature: -40 to +105degC; Publisher: Bolgen Studio; Package Description: Terminal Block, Pitch 3.81 mm, 2 x 8 Position, Height 22.7 mm; Package Reference: 15EDGRH-3.81-16P-14-00A; Color: Green; Orientation: Horizontal; Datasheet Version: Rev. T2, 06/2020
footprint DGSN-15EDGRH-3.81-16P-14-00A_V (Terminal Block, 16-Pin, Body 31.72x21.80mm, Pitch 3.81mm)
pins: 1, 2, 3, 4, 5, 6, 7, 8, 9, 10, 11, 12, 13, 14, 15, 16

## 15EDGRH-3.81-18P-14-00A(H)
designator J?
Pluggable Terminal Block, Double Level Horizontal, 2 x 9 Position, Pitch 3.81 mm, -40 to 105 degC, RoHS; Manufacturer: Degson Electronics; Poles: 18; Pitch: 3.81mm; Rated Current: 7A; Rated Voltage: 250V; No. of Rows: 2; Packing Unit: 100; Pin Arrangement: Double-row in a straight line; Type of Installation: PCB welding; ComponentLink1Description: Manufacturer; ComponentLink1URL: http://www.degson.com/; ComponentLink2URL: https://www.degson.com.cn/index.php?a=downloadFile&id=3864058&name=%27ZmlsZTQ=%27&lang=cn; ComponentLink2Description: Datasheet; Mounting Technology: Through Hole; Part Number: 15EDGRH-3.81-18P-14-00A(H); Operating Temperature: -40 to +105degC; Publisher: Bolgen Studio; Package Description: Terminal Block, Pitch 3.81 mm, 2 x 9 Position, Height 22.7 mm; Package Reference: 15EDGRH-3.81-18P-14-00A; Color: Green; Orientation: Horizontal; Datasheet Version: Rev. T2, 06/2020
footprint DGSN-15EDGRH-3.81-18P-14-00A_V (Terminal Block, 18-Pin, Body 35.53x21.80mm, Pitch 3.81mm)
pins: 1, 2, 3, 4, 5, 6, 7, 8, 9, 10, 11, 12, 13, 14, 15, 16, 17, 18

## 15EDGRH-3.81-20P-14-00A(H)
designator J?
Pluggable Terminal Block, Double Level Horizontal, 2 x 10 Position, Pitch 3.81 mm, -40 to 105 degC, RoHS; Manufacturer: Degson Electronics; Poles: 20; Pitch: 3.81mm; Rated Current: 7A; Rated Voltage: 250V; No. of Rows: 2; Packing Unit: 100; Pin Arrangement: Double-row in a straight line; Type of Installation: PCB welding; ComponentLink1Description: Manufacturer; ComponentLink1URL: http://www.degson.com/; ComponentLink2URL: https://www.degson.com.cn/index.php?a=downloadFile&id=3864058&name=%27ZmlsZTQ=%27&lang=cn; ComponentLink2Description: Datasheet; Mounting Technology: Through Hole; Part Number: 15EDGRH-3.81-20P-14-00A(H); Operating Temperature: -40 to +105degC; Publisher: Bolgen Studio; Package Description: Terminal Block, Pitch 3.81 mm, 2 x 10 Position, Height 22.7 mm; Package Reference: 15EDGRH-3.81-20P-14-00A; Color: Green; Orientation: Horizontal; Datasheet Version: Rev. T2, 06/2020
footprint DGSN-15EDGRH-3.81-20P-14-00A_V (Terminal Block, 20-Pin, Body 39.34x21.80mm, Pitch 3.81mm)
pins: 1, 2, 3, 4, 5, 6, 7, 8, 9, 10, 11, 12, 13, 14, 15, 16, 17, 18, 19, 20

## 15EDGRH-3.81-22P-14-00A(H)
designator J?
Pluggable Terminal Block, Double Level Horizontal, 2 x 11 Position, Pitch 3.81 mm, -40 to 105 degC, RoHS; Manufacturer: Degson Electronics; Poles: 22; Pitch: 3.81mm; Rated Current: 7A; Rated Voltage: 250V; No. of Rows: 2; Packing Unit: 100; Pin Arrangement: Double-row in a straight line; Type of Installation: PCB welding; ComponentLink1Description: Manufacturer; ComponentLink1URL: http://www.degson.com/; ComponentLink2URL: https://www.degson.com.cn/index.php?a=downloadFile&id=3864058&name=%27ZmlsZTQ=%27&lang=cn; ComponentLink2Description: Datasheet; Mounting Technology: Through Hole; Part Number: 15EDGRH-3.81-22P-14-00A(H); Operating Temperature: -40 to +105degC; Publisher: Bolgen Studio; Package Description: Terminal Block, Pitch 3.81 mm, 2 x 11 Position, Height 22.7 mm; Package Reference: 15EDGRH-3.81-22P-14-00A; Color: Green; Orientation: Horizontal; Datasheet Version: Rev. T2, 06/2020
footprint DGSN-15EDGRH-3.81-22P-14-00A_V (Terminal Block, 22-Pin, Body 43.15x21.80mm, Pitch 3.81mm)
pins: 1, 2, 3, 4, 5, 6, 7, 8, 9, 10, 11, 12, 13, 14, 15, 16, 17, 18, 19, 20, 21, 22

## 15EDGRH-3.81-24P-14-00A(H)
designator J?
Pluggable Terminal Block, Double Level Horizontal, 2 x 12 Position, Pitch 3.81 mm, -40 to 105 degC, RoHS; Manufacturer: Degson Electronics; Poles: 24; Pitch: 3.81mm; Rated Current: 7A; Rated Voltage: 250V; No. of Rows: 2; Packing Unit: 100; Pin Arrangement: Double-row in a straight line; Type of Installation: PCB welding; ComponentLink1Description: Manufacturer; ComponentLink1URL: http://www.degson.com/; ComponentLink2URL: https://www.degson.com.cn/index.php?a=downloadFile&id=3864058&name=%27ZmlsZTQ=%27&lang=cn; ComponentLink2Description: Datasheet; Mounting Technology: Through Hole; Part Number: 15EDGRH-3.81-24P-14-00A(H); Operating Temperature: -40 to +105degC; Publisher: Bolgen Studio; Package Description: Terminal Block, Pitch 3.81 mm, 2 x 12 Position, Height 22.7 mm; Package Reference: 15EDGRH-3.81-24P-14-00A; Color: Green; Orientation: Horizontal; Datasheet Version: Rev. T2, 06/2020
footprint DGSN-15EDGRH-3.81-24P-14-00A_V (Terminal Block, 24-Pin, Body 46.96x21.80mm, Pitch 3.81mm)
pins: 1, 2, 3, 4, 5, 6, 7, 8, 9, 10, 11, 12, 13, 14, 15, 16, 17, 18, 19, 20, 21, 22, 23, 24

## 15EDGRH-3.81-26P-14-00A(H)
designator J?
Pluggable Terminal Block, Double Level Horizontal, 2 x 13 Position, Pitch 3.81 mm, -40 to 105 degC, RoHS; Manufacturer: Degson Electronics; Poles: 26; Pitch: 3.81mm; Rated Current: 7A; Rated Voltage: 250V; No. of Rows: 2; Packing Unit: 100; Pin Arrangement: Double-row in a straight line; Type of Installation: PCB welding; ComponentLink1Description: Manufacturer; ComponentLink1URL: http://www.degson.com/; ComponentLink2URL: https://www.degson.com.cn/index.php?a=downloadFile&id=3864058&name=%27ZmlsZTQ=%27&lang=cn; ComponentLink2Description: Datasheet; Mounting Technology: Through Hole; Part Number: 15EDGRH-3.81-26P-14-00A(H); Operating Temperature: -40 to +105degC; Publisher: Bolgen Studio; Package Description: Terminal Block, Pitch 3.81 mm, 2 x 13 Position, Height 22.7 mm; Package Reference: 15EDGRH-3.81-26P-14-00A; Color: Green; Orientation: Horizontal; Datasheet Version: Rev. T2, 06/2020
footprint DGSN-15EDGRH-3.81-26P-14-00A_V (Terminal Block, 26-Pin, Body 50.77x21.80mm, Pitch 3.81mm)
pins: 1, 2, 3, 4, 5, 6, 7, 8, 9, 10, 11, 12, 13, 14, 15, 16, 17, 18, 19, 20, 21, 22, 23, 24, 25, 26

## 15EDGRH-3.81-28P-14-00A(H)
designator J?
Pluggable Terminal Block, Double Level Horizontal, 2 x 14 Position, Pitch 3.81 mm, -40 to 105 degC, RoHS; Manufacturer: Degson Electronics; Poles: 28; Pitch: 3.81mm; Rated Current: 7A; Rated Voltage: 250V; No. of Rows: 2; Packing Unit: 100; Pin Arrangement: Double-row in a straight line; Type of Installation: PCB welding; ComponentLink1Description: Manufacturer; ComponentLink1URL: http://www.degson.com/; ComponentLink2URL: https://www.degson.com.cn/index.php?a=downloadFile&id=3864058&name=%27ZmlsZTQ=%27&lang=cn; ComponentLink2Description: Datasheet; Mounting Technology: Through Hole; Part Number: 15EDGRH-3.81-28P-14-00A(H); Operating Temperature: -40 to +105degC; Publisher: Bolgen Studio; Package Description: Terminal Block, Pitch 3.81 mm, 2 x 14 Position, Height 22.7 mm; Package Reference: 15EDGRH-3.81-28P-14-00A; Color: Green; Orientation: Horizontal; Datasheet Version: Rev. T2, 06/2020
footprint DGSN-15EDGRH-3.81-28P-14-00A_V (Terminal Block, 28-Pin, Body 54.58x21.80mm, Pitch 3.81mm)
pins: 1, 2, 3, 4, 5, 6, 7, 8, 9, 10, 11, 12, 13, 14, 15, 16, 17, 18, 19, 20, 21, 22, 23, 24, 25, 26, 27, 28

## 15EDGRH-3.81-30P-14-00A(H)
designator J?
Pluggable Terminal Block, Double Level Horizontal, 2 x 15 Position, Pitch 3.81 mm, -40 to 105 degC, RoHS; Manufacturer: Degson Electronics; Poles: 30; Pitch: 3.81mm; Rated Current: 7A; Rated Voltage: 250V; No. of Rows: 2; Packing Unit: 100; Pin Arrangement: Double-row in a straight line; Type of Installation: PCB welding; ComponentLink1Description: Manufacturer; ComponentLink1URL: http://www.degson.com/; ComponentLink2URL: https://www.degson.com.cn/index.php?a=downloadFile&id=3864058&name=%27ZmlsZTQ=%27&lang=cn; ComponentLink2Description: Datasheet; Mounting Technology: Through Hole; Part Number: 15EDGRH-3.81-30P-14-00A(H); Operating Temperature: -40 to +105degC; Publisher: Bolgen Studio; Package Description: Terminal Block, Pitch 3.81 mm, 2 x 15 Position, Height 22.7 mm; Package Reference: 15EDGRH-3.81-30P-14-00A; Color: Green; Orientation: Horizontal; Datasheet Version: Rev. T2, 06/2020
footprint DGSN-15EDGRH-3.81-30P-14-00A_V (Terminal Block, 30-Pin, Body 58.39x21.80mm, Pitch 3.81mm)
pins: 1, 2, 3, 4, 5, 6, 7, 8, 9, 10, 11, 12, 13, 14, 15, 16, 17, 18, 19, 20, 21, 22, 23, 24, 25, 26, 27, 28, 29, 30

## 15EDGRH-3.81-32P-14-00A(H)
designator J?
Pluggable Terminal Block, Double Level Horizontal, 2 x 16 Position, Pitch 3.81 mm, -40 to 105 degC, RoHS; Manufacturer: Degson Electronics; Poles: 32; Pitch: 3.81mm; Rated Current: 7A; Rated Voltage: 250V; No. of Rows: 2; Packing Unit: 100; Pin Arrangement: Double-row in a straight line; Type of Installation: PCB welding; ComponentLink1Description: Manufacturer; ComponentLink1URL: http://www.degson.com/; ComponentLink2URL: https://www.degson.com.cn/index.php?a=downloadFile&id=3864058&name=%27ZmlsZTQ=%27&lang=cn; ComponentLink2Description: Datasheet; Mounting Technology: Through Hole; Part Number: 15EDGRH-3.81-32P-14-00A(H); Operating Temperature: -40 to +105degC; Publisher: Bolgen Studio; Package Description: Terminal Block, Pitch 3.81 mm, 2 x 16 Position, Height 22.7 mm; Package Reference: 15EDGRH-3.81-32P-14-00A; Color: Green; Orientation: Horizontal; Datasheet Version: Rev. T2, 06/2020
footprint DGSN-15EDGRH-3.81-32P-14-00A_V (Terminal Block, 32-Pin, Body 62.20x21.80mm, Pitch 3.81mm)
pins: 1, 2, 3, 4, 5, 6, 7, 8, 9, 10, 11, 12, 13, 14, 15, 16, 17, 18, 19, 20, 21, 22, 23, 24, 25, 26, 27, 28, 29, 30, 31, 32

## 15EDGRH-3.81-34P-14-00A(H)
designator J?
Pluggable Terminal Block, Double Level Horizontal, 2 x 17 Position, Pitch 3.81 mm, -40 to 105 degC, RoHS; Manufacturer: Degson Electronics; Poles: 34; Pitch: 3.81mm; Rated Current: 7A; Rated Voltage: 250V; No. of Rows: 2; Packing Unit: 100; Pin Arrangement: Double-row in a straight line; Type of Installation: PCB welding; ComponentLink1Description: Manufacturer; ComponentLink1URL: http://www.degson.com/; ComponentLink2URL: https://www.degson.com.cn/index.php?a=downloadFile&id=3864058&name=%27ZmlsZTQ=%27&lang=cn; ComponentLink2Description: Datasheet; Mounting Technology: Through Hole; Part Number: 15EDGRH-3.81-34P-14-00A(H); Operating Temperature: -40 to +105degC; Publisher: Bolgen Studio; Package Description: Terminal Block, Pitch 3.81 mm, 2 x 17 Position, Height 22.7 mm; Package Reference: 15EDGRH-3.81-34P-14-00A; Color: Green; Orientation: Horizontal; Datasheet Version: Rev. T2, 06/2020
footprint DGSN-15EDGRH-3.81-34P-14-00A_V (Terminal Block, 34-Pin, Body 66.01x21.80mm, Pitch 3.81mm)
pins: 1, 2, 3, 4, 5, 6, 7, 8, 9, 10, 11, 12, 13, 14, 15, 16, 17, 18, 19, 20, 21, 22, 23, 24, 25, 26, 27, 28, 29, 30, 31, 32, 33, 34

## 15EDGRH-3.81-36P-14-00A(H)
designator J?
Pluggable Terminal Block, Double Level Horizontal, 2 x 18 Position, Pitch 3.81 mm, -40 to 105 degC, RoHS; Manufacturer: Degson Electronics; Poles: 36; Pitch: 3.81mm; Rated Current: 7A; Rated Voltage: 250V; No. of Rows: 2; Packing Unit: 100; Pin Arrangement: Double-row in a straight line; Type of Installation: PCB welding; ComponentLink1Description: Manufacturer; ComponentLink1URL: http://www.degson.com/; ComponentLink2URL: https://www.degson.com.cn/index.php?a=downloadFile&id=3864058&name=%27ZmlsZTQ=%27&lang=cn; ComponentLink2Description: Datasheet; Mounting Technology: Through Hole; Part Number: 15EDGRH-3.81-36P-14-00A(H); Operating Temperature: -40 to +105degC; Publisher: Bolgen Studio; Package Description: Terminal Block, Pitch 3.81 mm, 2 x 18 Position, Height 22.7 mm; Package Reference: 15EDGRH-3.81-36P-14-00A; Color: Green; Orientation: Horizontal; Datasheet Version: Rev. T2, 06/2020
footprint DGSN-15EDGRH-3.81-36P-14-00A_V (Terminal Block, 36-Pin, Body 69.82x21.80mm, Pitch 3.81mm)
pins: 1, 2, 3, 4, 5, 6, 7, 8, 9, 10, 11, 12, 13, 14, 15, 16, 17, 18, 19, 20, 21, 22, 23, 24, 25, 26, 27, 28, 29, 30, 31, 32, 33, 34, 35, 36

## 15EDGRH-3.81-38P-14-00A(H)
designator J?
Pluggable Terminal Block, Double Level Horizontal, 2 x 19 Position, Pitch 3.81 mm, -40 to 105 degC, RoHS; Manufacturer: Degson Electronics; Poles: 38; Pitch: 3.81mm; Rated Current: 7A; Rated Voltage: 250V; No. of Rows: 2; Packing Unit: 100; Pin Arrangement: Double-row in a straight line; Type of Installation: PCB welding; ComponentLink1Description: Manufacturer; ComponentLink1URL: http://www.degson.com/; ComponentLink2URL: https://www.degson.com.cn/index.php?a=downloadFile&id=3864058&name=%27ZmlsZTQ=%27&lang=cn; ComponentLink2Description: Datasheet; Mounting Technology: Through Hole; Part Number: 15EDGRH-3.81-38P-14-00A(H); Operating Temperature: -40 to +105degC; Publisher: Bolgen Studio; Package Description: Terminal Block, Pitch 3.81 mm, 2 x 19 Position, Height 22.7 mm; Package Reference: 15EDGRH-3.81-38P-14-00A; Color: Green; Orientation: Horizontal; Datasheet Version: Rev. T2, 06/2020
footprint DGSN-15EDGRH-3.81-38P-14-00A_V (Terminal Block, 38-Pin, Body 73.63x21.80mm, Pitch 3.81mm)
pins: 1, 2, 3, 4, 5, 6, 7, 8, 9, 10, 11, 12, 13, 14, 15, 16, 17, 18, 19, 20, 21, 22, 23, 24, 25, 26, 27, 28, 29, 30, 31, 32, 33, 34, 35, 36, 37, 38

## 15EDGRH-3.81-40P-14-00A(H)
designator J?
Pluggable Terminal Block, Double Level Horizontal, 2 x 20 Position, Pitch 3.81 mm, -40 to 105 degC, RoHS; Manufacturer: Degson Electronics; Poles: 40; Pitch: 3.81mm; Rated Current: 7A; Rated Voltage: 250V; No. of Rows: 2; Packing Unit: 100; Pin Arrangement: Double-row in a straight line; Type of Installation: PCB welding; ComponentLink1Description: Manufacturer; ComponentLink1URL: http://www.degson.com/; ComponentLink2URL: https://www.degson.com.cn/index.php?a=downloadFile&id=3864058&name=%27ZmlsZTQ=%27&lang=cn; ComponentLink2Description: Datasheet; Mounting Technology: Through Hole; Part Number: 15EDGRH-3.81-40P-14-00A(H); Operating Temperature: -40 to +105degC; Publisher: Bolgen Studio; Package Description: Terminal Block, Pitch 3.81 mm, 2 x 20 Position, Height 22.7 mm; Package Reference: 15EDGRH-3.81-40P-14-00A; Color: Green; Orientation: Horizontal; Datasheet Version: Rev. T2, 06/2020
footprint DGSN-15EDGRH-3.81-40P-14-00A_V (Terminal Block, 40-Pin, Body 77.44x21.80mm, Pitch 3.81mm)
pins: 1, 2, 3, 4, 5, 6, 7, 8, 9, 10, 11, 12, 13, 14, 15, 16, 17, 18, 19, 20, 21, 22, 23, 24, 25, 26, 27, 28, 29, 30, 31, 32, 33, 34, 35, 36, 37, 38, 39, 40

## 15EDGRH-3.81-42P-14-00A(H)
designator J?
Pluggable Terminal Block, Double Level Horizontal, 2 x 21 Position, Pitch 3.81 mm, -40 to 105 degC, RoHS; Manufacturer: Degson Electronics; Poles: 42; Pitch: 3.81mm; Rated Current: 7A; Rated Voltage: 250V; No. of Rows: 2; Packing Unit: 100; Pin Arrangement: Double-row in a straight line; Type of Installation: PCB welding; ComponentLink1Description: Manufacturer; ComponentLink1URL: http://www.degson.com/; ComponentLink2URL: https://www.degson.com.cn/index.php?a=downloadFile&id=3864058&name=%27ZmlsZTQ=%27&lang=cn; ComponentLink2Description: Datasheet; Mounting Technology: Through Hole; Part Number: 15EDGRH-3.81-42P-14-00A(H); Operating Temperature: -40 to +105degC; Publisher: Bolgen Studio; Package Description: Terminal Block, Pitch 3.81 mm, 2 x 21 Position, Height 22.7 mm; Package Reference: 15EDGRH-3.81-42P-14-00A; Color: Green; Orientation: Horizontal; Datasheet Version: Rev. T2, 06/2020
footprint DGSN-15EDGRH-3.81-42P-14-00A_V (Terminal Block, 42-Pin, Body 81.25x21.80mm, Pitch 3.81mm)
pins: 1, 2, 3, 4, 5, 6, 7, 8, 9, 10, 11, 12, 13, 14, 15, 16, 17, 18, 19, 20, 21, 22, 23, 24, 25, 26, 27, 28, 29, 30, 31, 32, 33, 34, 35, 36, 37, 38, 39, 40, 41, 42